# Altium footprint library Resistors.PcbLib: 10 footprints
Each footprint in its own frame and in the unit in brackets; x right, y up, seen from the top. Pads: shape width x height; smd on the part's side, far side on the other; paste and mask are expansions set on the pad; w line width, h text height; cw(c..) or ccw(c..) is an arc to the next point about the centre after c.
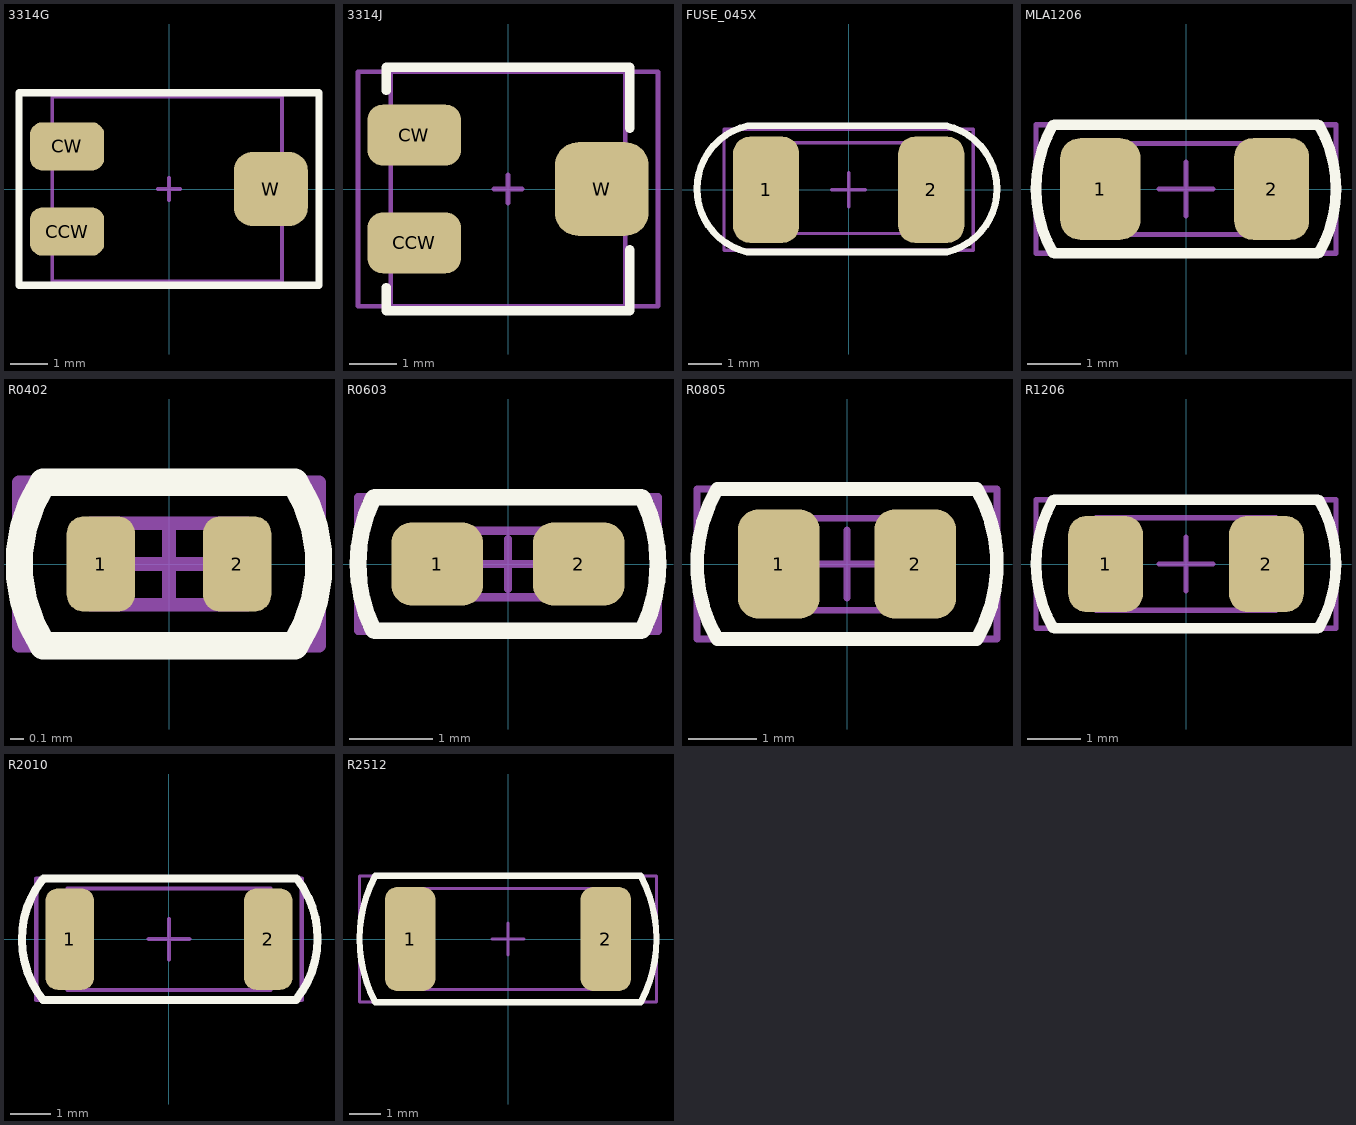
[diagram p0: the footprints below, top view; thin cyan lines are the x and y axes]

## 3314G [mm]
pads (3):
  rrect50% 2x1.3 smd: CCW(-2.75,-1.15) CW(-2.75,1.15)
  rrect50% 2x2 smd: W(2.75,0)
Top Overlay:
  lines w0.2: -4.05,-2.6 -4.05,2.6 4.05,2.6 4.05,-2.6 -4.05,-2.6
Mechanical 7:
  lines w0.1: -4.05,-2.6 -4.05,2.6 4.05,2.6 4.05,-2.6 -4.05,-2.6
  text ".Designator" at -3.35,-0.45 h1.5
Mechanical 13:
  lines w0.1: -3.149,-2.499 -3.149,2.5 3.049,2.5 3.049,-2.499 -3.149,-2.499
Mechanical 15:
  lines w0.1: -0.3,0 0.3,0 ; 0,-0.3 0,0.3 ; -4.05,-2.6 4.05,-2.6 4.05,2.6 -4.05,2.6 -4.05,-2.6
3D body "3314G1.stp": height 2.72, standoff -0.01, extent -3.149,-2.499 3.049,2.5

## 3314J [mm]
pads (3):
  rrect50% 2x1.3 smd: CCW(-2,-1.15) CW(-2,1.15)
  rrect50% 2x2 smd: W(2,0)
Top Overlay:
  lines w0.2: -2.6,-2.1 -2.6,-2.6 2.6,-2.6 2.6,-1.3 ; -2.6,2.1 -2.6,2.6 2.6,2.6 2.6,1.3
Mechanical 7:
  lines w0.1: -3.2,-2.5 3.2,-2.5 3.2,2.5 -3.2,2.5 -3.2,-2.5
  text ".Designator" at -1.9,0.9 h1.5
Mechanical 13:
  lines w0.1: -2.5,-2.5 -2.5,2.5 2.5,2.5 2.5,-2.5 -2.5,-2.5
Mechanical 15:
  lines w0.1: -0.3,0 0.3,0 ; 0,-0.3 0,0.3 ; -3.2,-2.5 -3.2,2.5 3.2,2.5 3.2,-2.5 -3.2,-2.5
3D body "3314J1.stp": height 2.71, standoff -0.01, extent -2.502,-2.5 2.502,2.5
3D body: height 0.25, standoff -4.5, extent 0,-0.5 0,-0.5

## FUSE_045X [mm] "Littlefuse"
height 2.7
pads (2):
  rrect50% 1.96x3.15 smd: 1(-2.45,0) 2(2.45,0)
Top Overlay:
  lines w0.2: -2.999,1.897 ccw(c-2.581,0.022) -3.011,-1.849 2.911,-1.849 ccw(c2.481,0.022) 2.899,1.897 ; -2.95,1.9 2.9,1.9
Mechanical 7:
  lines w0.05: -3.2,-1.3 -3.2,1.4 3.1,1.4 3.1,-1.3 -3.2,-1.3
  text ".Designator" at -2.5,-0.25 h1.5
Mechanical 13:
  lines w0.1: -3,-1.3 -3,1.4 3,1.4 3,-1.3 -3,-1.3
Mechanical 15:
  lines w0.1: -0.5,0 0.5,0 ; 0,-0.5 0,0.5 ; -3.7,-1.8 3.7,-1.8 3.7,1.8 -3.7,1.8 -3.7,-1.8
3D body "User Library-Littlefuse 0451 SMD.STEP": height 2.69, standoff 0, extent -3,-1.3 3,1.39

## MLA1206 [mm] "LittleFuse_varistor_mla"
height 1.8
pads (2):
  rrect50% 1.5x1.9 smd: 1(-1.6,0)
  rrect50% 1.4x1.9 smd: 2(1.6,0)
Top Overlay:
  lines w0.2: -2.484,-1.191 cw(c-0.4,0) -2.484,1.191 ; -2.45,-1.2 2.45,-1.2 ; -2.45,1.2 2.45,1.2 ; 2.484,-1.191 ccw(c0.4,0) 2.484,1.191
Mechanical 7:
  lines w0.05: -2.8,-1.2 -2.8,1.2 2.8,1.2 2.8,-1.2 -2.8,-1.2
  text ".Designator" at -2.5,-0.25 h1.5
Mechanical 13:
  lines w0.1: -2.05,-0.85 -2.05,0.85 2.05,0.85 2.05,-0.85 -2.05,-0.85
Mechanical 15:
  lines w0.1: -0.5,0 0.5,0 ; 0,-0.5 0,0.5 ; -2.8,-1.2 2.8,-1.2 2.8,1.2 -2.8,1.2 -2.8,-1.2
3D body: height 1.8, standoff 0, extent -2.05,-0.85 2.05,0.85

## R0402 [mm] "1005M"
height 0.4
pads (2):
  rrect50% 0.5x0.7 smd: 1(-0.5,0) 2(0.5,0)
Top Overlay:
  lines w0.2: -0.923,-0.599 cw(c0,0) -0.923,0.599 ; -0.9,-0.6 0.9,-0.6 ; -0.9,0.6 0.9,0.6 ; 0.923,-0.599 ccw(c0,0) 0.923,0.599
Mechanical 7:
  lines w0.05: -1.1,-0.6 -1.1,0.6 1.1,0.6 1.1,-0.6 -1.1,-0.6
  text ".Designator" at -0.7,-0.2 h0.7
Mechanical 13:
  lines w0.1: -0.575,-0.3 -0.575,0.3 0.575,0.3 0.575,-0.3 -0.575,-0.3
Mechanical 15:
  lines w0.1: -0.25,0 0.25,0 ; 0,-0.25 0,0.25 ; -1.1,-0.6 1.1,-0.6 1.1,0.6 -1.1,0.6 -1.1,-0.6
3D body "User Library-RES_1005-0402.STEP": height 0.41, standoff 0, extent -0.575,-0.275 0.575,0.275

## R0603 [mm] "1608M"
height 0.6
pads (2):
  rrect50% 1.1x1 smd: 1(-0.85,0) 2(0.85,0)
Top Overlay:
  lines w0.2: -1.615,-0.795 cw(c0,0) -1.615,0.795 ; -1.6,-0.8 1.6,-0.8 ; -1.6,0.8 1.6,0.8 ; 1.615,-0.795 ccw(c0,0) 1.615,0.795
Mechanical 7:
  lines w0.05: -1.8,-0.8 1.8,-0.8 1.8,0.8 -1.8,0.8 -1.8,-0.8
  text ".Designator" at -1.1,-0.3 h1
Mechanical 13:
  lines w0.1: -0.8,-0.4 0.8,-0.4 0.8,0.4 -0.8,0.4 -0.8,-0.4
Mechanical 15:
  lines w0.1: -0.3,0 0.3,0 ; 0,-0.3 0,0.3 ; -1.8,-0.8 1.8,-0.8 1.8,0.8 -1.8,0.8 -1.8,-0.8
3D body "User Library-RES_1609-0603.STEP": height 0.56, standoff 0, extent -0.85,-0.4 0.85,0.4

## R0805 [mm] "2012M"
height 1
pads (2):
  rrect50% 1.2x1.6 smd: 1(-1,0) 2(1,0)
Top Overlay:
  lines w0.2: -1.915,1.083 ccw(c0,0) -1.91,-1.092 ; -1.9,-1.1 1.9,-1.1 ; -1.9,1.1 1.9,1.1 ; 1.91,1.092 cw(c0,0) 1.915,-1.083
Mechanical 7:
  lines w0.05: -2.2,-1.1 2.2,-1.1 2.2,1.1 -2.2,1.1 -2.2,-1.1
  text ".Designator" at -2,-0.25 h1.2
Mechanical 13:
  lines w0.1: -1.15,-0.679 1.127,-0.679 1.127,0.671 -1.15,0.671 -1.15,-0.679
Mechanical 15:
  lines w0.1: -0.5,0 0.5,0 ; 0,-0.5 0,0.5 ; -2.2,-1.1 2.2,-1.1 2.2,1.1 -2.2,1.1 -2.2,-1.1
3D body "User Library-RES_2013-0805.STEP": height 0.76, standoff 0, extent -1.15,-0.675 1.15,0.675

## R1206 [mm] "3216M"
height 1.6
pads (2):
  rrect50% 1.4x1.8 smd: 1(-1.5,0) 2(1.5,0)
Top Overlay:
  lines w0.2: -2.484,-1.191 cw(c-0.4,0) -2.484,1.191 ; -2.45,-1.2 2.45,-1.2 ; -2.45,1.2 2.45,1.2 ; 2.484,-1.191 ccw(c0.4,0) 2.484,1.191
Mechanical 7:
  lines w0.05: -2.8,-1.2 -2.8,1.2 2.8,1.2 2.8,-1.2 -2.8,-1.2
  text ".Designator" at -2.5,-0.25 h1.5
Mechanical 13:
  lines w0.1: -1.672,-0.865 1.675,-0.865 1.675,0.865 -1.672,0.865 -1.672,-0.865
Mechanical 15:
  lines w0.1: -0.5,0 0.5,0 ; 0,-0.5 0,0.5 ; -2.8,-1.2 2.8,-1.2 2.8,1.2 -2.8,1.2 -2.8,-1.2
3D body "User Library-RES_3216-1206.STEP": height 0.85, standoff 0, extent -1.675,-0.865 1.675,0.865

## R2010 [mm] "5025Ì"
height 1.6
pads (2):
  rrect50% 1.2x2.5 smd: 1(-2.45,0) 2(2.45,0)
Top Overlay:
  lines w0.2: -3.123,1.472 ccw(c-1.23,-0.004) -3.104,-1.503 ; -3.1,-1.5 3.139,-1.5 ; -3.1,1.5 3.148,1.5 ; 3.139,-1.491 ccw(c1.266,0.009) 3.148,1.499
Mechanical 7:
  lines w0.1: -2.5,-1.25 -2.5,1.25 2.5,1.25 2.5,-1.25 -2.5,-1.25
  text ".Designator" at -2,-0.375 h1.5
Mechanical 13:
  lines w0.1: -2.5,-1.25 2.5,-1.25 2.5,1.25 -2.5,1.25 -2.5,-1.25
Mechanical 15:
  lines w0.1: -0.5,0 0.5,0 ; 0,-0.5 0,0.5 ; -3.275,-1.5 3.275,-1.5 3.275,1.5 -3.1,1.5 -3.275,1.5 -3.275,-1.5
3D body "User Library-R2010-2.STEP": height 0.6, standoff 0, extent -2.5,-1.25 2.5,1.25

## R2512 [mm] "6432M"
height 0.71
pads (2):
  rrect50% 1.6x3.3 smd: 1(-3.1,0) 2(3.1,0)
Top Overlay:
  lines w0.2: -4.215,-1.983 cw(c-0.4,0) -4.211,1.992 ; -4.2,-2 4.2,-2 ; -4.2,2 4.2,2 ; 4.211,-1.992 ccw(c0.4,0) 4.211,1.992
Mechanical 7:
  lines w0.05: -4.7,-2 -4.7,2 4.7,2 4.7,-2 -4.7,-2
  text ".Designator" at -2.5,-0.25 h1.5
Mechanical 13:
  lines w0.1: -3.2,-1.6 -3.2,1.6 3.188,1.6 3.188,-1.6 -3.2,-1.6
Mechanical 15:
  lines w0.1: -0.5,0 0.5,0 ; 0,-0.5 0,0.5 ; -4.7,-2 -4.7,2 4.7,2 4.7,-2 -4.7,-2
3D body "User Library-RESC6432X06.STEP": height 0.6, standoff 0, extent -3.2,-1.6 3.2,1.6